# Altium footprint library WLCSP10.PcbLib: 1 footprints
Each footprint in its own frame and in the unit in brackets; x right, y up, seen from the top. Pads: shape width x height; smd on the part's side, far side on the other; paste and mask are expansions set on the pad; w line width, h text height; cw(c..) or ccw(c..) is an arc to the next point about the centre after c.
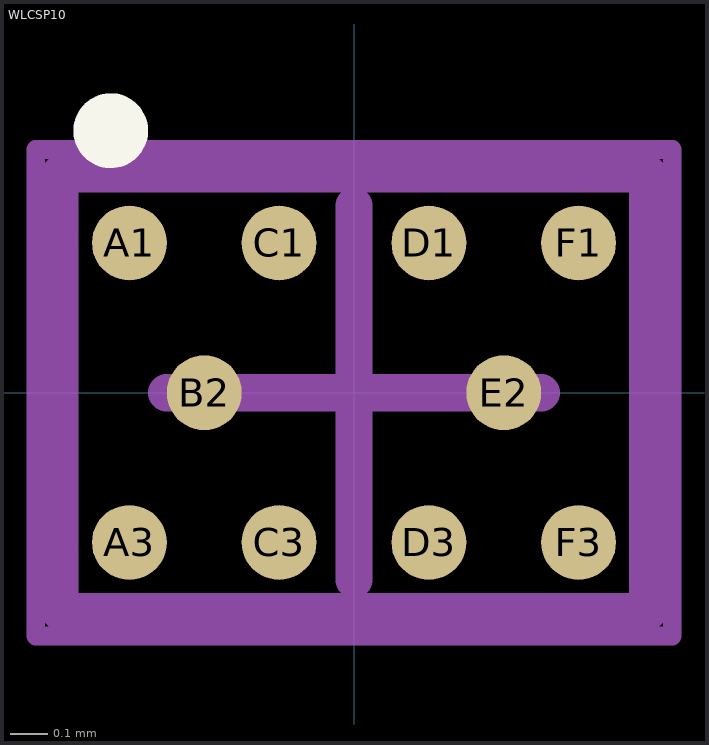
[diagram p0: the footprint, top view; thin cyan lines are the x and y axes]

## WLCSP10 [mm]
height 0.63
pads (10):
  round 0.2 smd mask+0.03: A1(-0.6,0.4) A3(-0.6,-0.4) B2(-0.4,0) C1(-0.2,0.4) C3(-0.2,-0.4) D1(0.2,0.4) D3(0.2,-0.4) E2(0.4,0) F1(0.6,0.4) F3(0.6,-0.4)
Top Overlay:
  circle w0.1: c-0.65,0.7 r0.05
Mechanical 2:
  lines w0.1: -0.785,-0.585 0.785,-0.585 0.785,0.585 -0.785,0.585 -0.785,-0.585
Mechanical 4:
  lines w0.05: -0.85,-0.65 0.85,-0.65 0.85,0.65 -0.85,0.65 -0.85,-0.65
  lines w0.1: -0.5,0 0.5,0 ; 0,-0.5 0,0.5
3D body "User Library-PCMF2USB3S.step": height 0.57, standoff -0.03, extent -0.785,-0.585 0.785,0.585